# Altium schematic symbol library CH340G.SchLib: 1 symbol
Pins are listed as number, name and electrical type; pins without a type are passive.

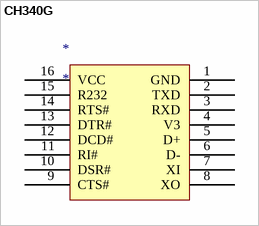
[diagram p0: symbol CH340G]

## CH340G
designator *
pins: 1 GND (power), 2 TXD (power), 3 RXD (power), 4 V3 (power), 5 D+ (power), 6 D- (power), 7 XI (power), 8 XO (power), 9 CTS# (power), 10 DSR# (power), 11 RI# (power), 12 DCD# (power), 13 DTR# (power), 14 RTS# (power), 15 R232 (power), 16 VCC (power)